# Altium schematic symbol library 08056D104KAT2A.SchLib: 1 symbol
Pins are listed as number, name and electrical type; pins without a type are passive.

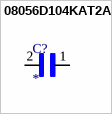
[diagram p0: symbol 08056D104KAT2A]

## 08056D104KAT2A
designator C?
CAP 0.1UF 6.3VDC X5R 10% SMD 0805; MP: 08056D104KAT2A; MF: {'manufacturer': u'AVX'}; Price: None; Availability: Unavailable; Package: None; Value: *
footprint CAPC2012X140N
pins: 1, 2